# Altium footprint library 007-LED.PcbLib: 8 footprints
Each footprint in its own frame and in the unit in brackets; x right, y up, seen from the top. Pads: shape width x height; smd on the part's side, far side on the other; paste and mask are expansions set on the pad; w line width, h text height; cw(c..) or ccw(c..) is an arc to the next point about the centre after c.
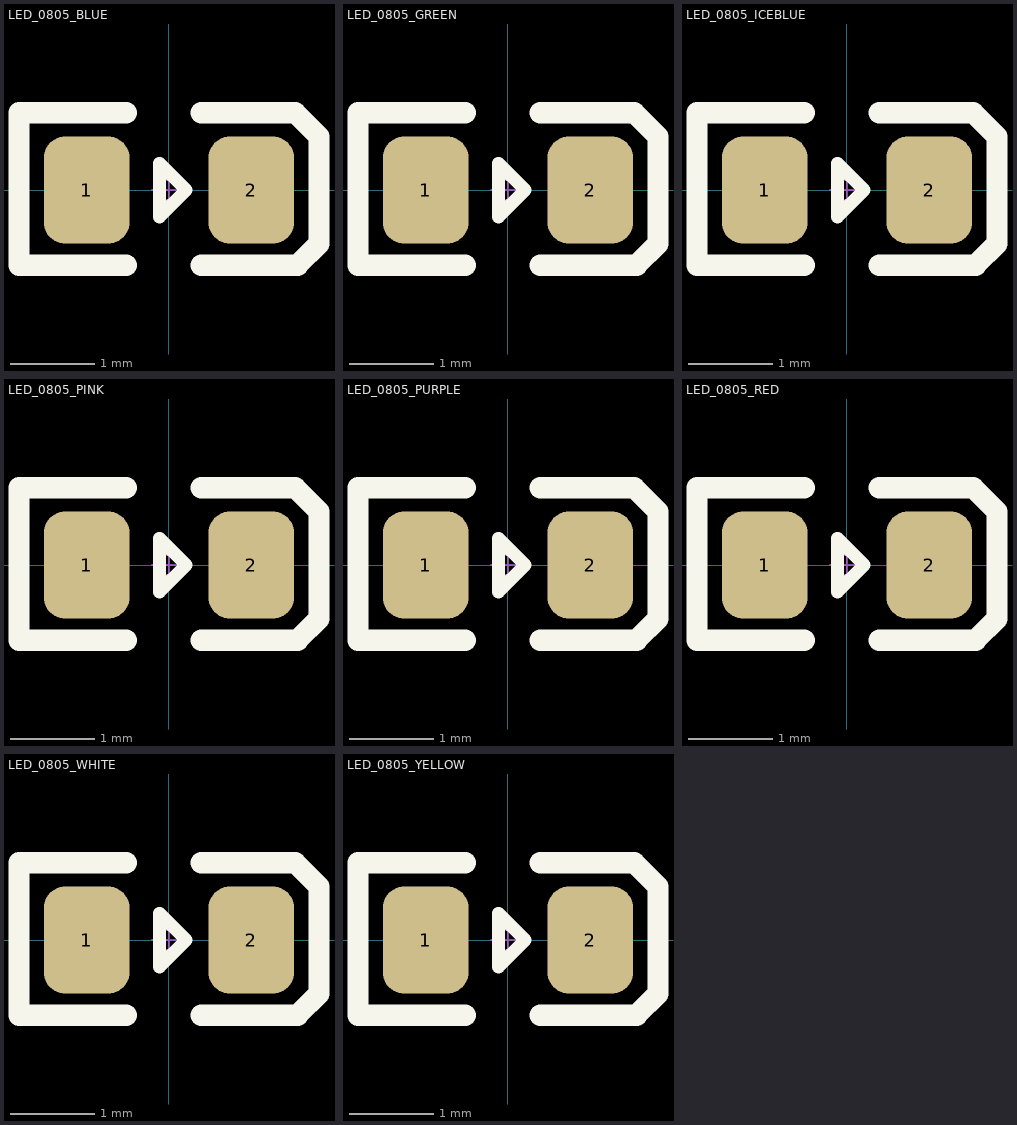
[diagram p0: the footprints below, top view; thin cyan lines are the x and y axes]

## LED_0805_BLUE [mil] "0805-蓝色LED-2.0mm*1.2mm*0.8mm"
height 31.5
pads (2):
  rrect50% 40x50 smd: 1(-38.4,0) 2(38.4,0)
Top Overlay:
  lines w6: -4.5,-12.5 8,0 -4.5,12.5 -4.5,-12.5
  lines w10: -20,-35 -70,-35 -70,36 -20,36 ; 15,-35 60,-35 70,-25 70,25 59,36 15,36
Mechanical 15:
  circle w1: c0,0 r5
  lines w1: -7.87,0 7.88,0 ; 0,-7.87 0,7.88
3D body "LED_0805_BLUE.step": height 39.76, standoff -0.01, extent -39.76,-25 39.76,24.61

## LED_0805_GREEN [mil] "0805-绿色LED-2.0mm*1.2mm*0.8mm"
height 31.5
pads (2):
  rrect50% 40x50 smd: 1(-38.4,0) 2(38.4,0)
Top Overlay:
  lines w6: -4.5,-12.5 8,0 -4.5,12.5 -4.5,-12.5
  lines w10: -20,-35 -70,-35 -70,36 -20,36 ; 15,-35 60,-35 70,-25 70,25 59,36 15,36
Mechanical 15:
  circle w1: c0,0 r5
  lines w1: -7.87,0 7.88,0 ; 0,-7.87 0,7.88
3D body "LED_0805_GREEN.step": height 39.76, standoff -0.01, extent -39.76,-25 39.76,24.61

## LED_0805_ICEBLUE [mil] "0805-冰蓝色LED-2.0mm*1.2mm*0.8mm"
height 31.5
pads (2):
  rrect50% 40x50 smd: 1(-38.4,0) 2(38.4,0)
Top Overlay:
  lines w6: -4.5,-12.5 8,0 -4.5,12.5 -4.5,-12.5
  lines w10: -20,-35 -70,-35 -70,36 -20,36 ; 15,-35 60,-35 70,-25 70,25 59,36 15,36
Mechanical 15:
  circle w1: c0,0 r5
  lines w1: -7.87,0 7.88,0 ; 0,-7.87 0,7.88
3D body "LED_0805_ICEBLUE.step": height 39.76, standoff -0.01, extent -39.76,-25 39.76,24.61

## LED_0805_PINK [mil] "0805-粉色LED-2.0mm*1.2mm*0.8mm"
height 31.5
pads (2):
  rrect50% 40x50 smd: 1(-38.4,0) 2(38.4,0)
Top Overlay:
  lines w6: -4.5,-12.5 -4.5,12.5 8,0 -4.5,-12.5
  lines w10: -20,-35 -70,-35 -70,36 -20,36 ; 15,-35 60,-35 70,-25 70,25 59,36 15,36
Mechanical 15:
  circle w1: c0,0 r5
  lines w1: -7.87,0 7.88,0 ; 0,-7.87 0,7.88
3D body "LED_0805_PINK.step": height 39.76, standoff -0.01, extent -39.76,-25 39.76,24.61

## LED_0805_PURPLE [mil] "0805-粉色LED-2.0mm*1.2mm*0.8mm"
height 31.5
pads (2):
  rrect50% 40x50 smd: 1(-38.4,0) 2(38.4,0)
Top Overlay:
  lines w6: -4.5,-12.5 -4.5,12.5 8,0 -4.5,-12.5
  lines w10: -20,-35 -70,-35 -70,36 -20,36 ; 15,-35 60,-35 70,-25 70,25 59,36 15,36
Mechanical 15:
  circle w1: c0,0 r5
  lines w1: -7.87,0 7.88,0 ; 0,-7.87 0,7.88
3D body "LED_0805_PURPLE.step": height 39.76, standoff -0.01, extent -39.76,-25 39.76,24.61

## LED_0805_RED [mil] "0805-红色LED-2.0mm*1.2mm*0.8mm"
height 31.5
pads (2):
  rrect50% 40x50 smd: 1(-38.4,0) 2(38.4,0)
Top Overlay:
  lines w6: -4.5,-12.5 8,0 -4.5,12.5 -4.5,-12.5
  lines w10: -20,-35 -70,-35 -70,36 -20,36 ; 15,-35 60,-35 70,-25 70,25 59,36 15,36
Mechanical 15:
  circle w1: c0,0 r5
  lines w1: -7.87,0 7.88,0 ; 0,-7.87 0,7.88
3D body "LED_0805_RED.step": height 39.76, standoff -0.01, extent -39.76,-25 39.76,24.61

## LED_0805_WHITE [mil] "0805-白色LED-2.0mm*1.2mm*0.8mm"
height 31.5
pads (2):
  rrect50% 40x50 smd: 1(-38.4,0) 2(38.4,0)
Top Overlay:
  lines w6: -4.5,-12.5 8,0 -4.5,12.5 -4.5,-12.5
  lines w10: -20,-35 -70,-35 -70,36 -20,36 ; 15,-35 60,-35 70,-25 70,25 59,36 15,36
Mechanical 15:
  circle w1: c0,0 r5
  lines w1: -7.87,0 7.88,0 ; 0,-7.87 0,7.88
3D body "LED_0805_WHITE.step": height 39.76, standoff -0.01, extent -39.76,-25 39.76,24.61

## LED_0805_YELLOW [mil] "0805-黄色LED-2.0mm*1.2mm*0.8mm"
height 31.5
pads (2):
  rrect50% 40x50 smd: 1(-38.4,0) 2(38.4,0)
Top Overlay:
  lines w6: -4.5,-12.5 8,0 -4.5,12.5 -4.5,-12.5
  lines w10: -20,-35 -70,-35 -70,36 -20,36 ; 15,-35 60,-35 70,-25 70,25 59,36 15,36
Mechanical 15:
  circle w1: c0,0 r5
  lines w1: -7.87,0 7.88,0 ; 0,-7.87 0,7.88
3D body "LED_0805_YELLOW.step": height 39.76, standoff -0.01, extent -39.76,-25 39.76,24.61